# EAGLE library part BQ24392 (library nixiemisc)
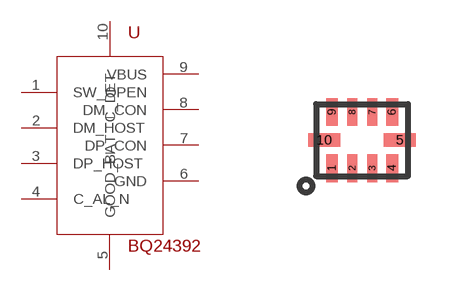
[diagram p15: symbol with the pads of UQFN-10; footprint UQFN-10]

Designator prefix -

## BQ24392  [UQFN-10]
1  SW_OPEN  pas
2  DM_HOST  pas
3  DP_HOST  pas
4  C_AL_N  pas
5  GOOD_BAT  pas
6  GND  pwr
7  DP_CON  pas
8  DM_CON  pas
9  VBUS  pwr
10  C_DET  pas

## Footprint UQFN-10 (pad centres in mm)
smd 0.3 x 0.7: 1 -0.75,-0.7; 4 0.75,-0.7; 6 0.75,0.7; 9 -0.75,0.7
smd 0.25 x 0.7: 2 -0.25,-0.7; 3 0.25,-0.7; 7 0.25,0.7; 8 -0.25,0.7
smd 0.8 x 0.35: 5 0.945,0; 10 -0.945,0